# Altium schematic symbol library 交互.SchLib: 3 symbols
Pins are listed as number, name and electrical type; pins without a type are passive.

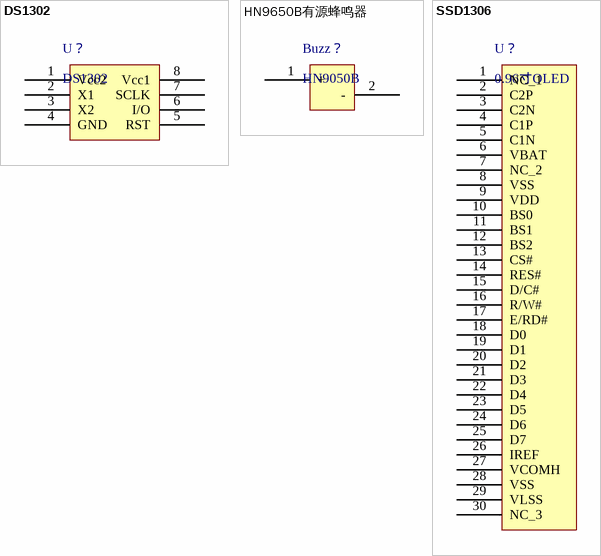
[diagram p0: symbols DS1302 to SSD1306]

## DS1302
designator U？
footprint SOP-8 1
pins: 1 Vcc2, 2 X1, 3 X2, 4 GND, 5 RST, 6 I/O, 7 SCLK, 8 Vcc1

## HN9650B有源蜂鸣器
designator Buzz？, comment HN9050B
pins: 1 +, 2 -

## SSD1306
designator U？, comment 0.96寸OLED
footprint 0.96寸OLED
pins: 1 NC_1, 2 C2P, 3 C2N, 4 C1P, 5 C1N, 6 VBAT, 7 NC_2, 8 VSS, 9 VDD, 10 BS0, 11 BS1, 12 BS2, 13 CS#, 14 RES#, 15 D/C#, 16 R/W#, 17 E/RD#, 18 D0, 19 D1, 20 D2, 21 D3, 22 D4, 23 D5, 24 D6, 25 D7, 26 IREF, 27 VCOMH, 28 VSS, 29 VLSS, 30 NC_3